# Altium schematic symbol library Gas Discharge Tube Arresters (GDT).SchLib: 1 symbol
Pins are listed as number, name and electrical type; pins without a type are passive.

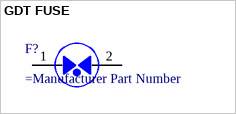
[diagram p0: symbol GDT FUSE]

## GDT FUSE
designator F?
Gas Discharge Tube
footprint LITTLEFUSE CG110MS
pins: 1, 2